# Altium schematic symbol library rsense-she.SchLib: 1 symbol
Pins are listed as number, name and electrical type; pins without a type are passive.

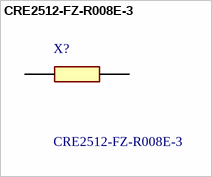
[diagram p0: symbol CRE2512-FZ-R008E-3]

## CRE2512-FZ-R008E-3
designator X?
Bourns CRE Series Metal Strip Current Sensing Surface Mount Resistor 2512 Case 8m +/-1% 3W +/-75ppm/C; Geometry.Height: 0.9mm; Mouser Part Number: 652-CRE2512FZR008E-3; Mouser Price/Stock: https://www.mouser.co.uk/ProductDetail/Bourns/CRE2512-FZ-R008E-3?qs=rpfKl3ntHzPlDo8R7FNwBw%3D%3D; Manufacturer_Name: Bourns; Manufacturer_Part_Number: CRE2512-FZ-R008E-3; Datasheet Link: https://www.bourns.com/docs/Product-Datasheets/CRE.pdf
footprint RESC6432X90N
pins: 1, 2